# Altium footprint library LDL112PU10R.PcbLib: 1 footprints
Each footprint in its own frame and in the unit in brackets; x right, y up, seen from the top. Pads: shape width x height; smd on the part's side, far side on the other; paste and mask are expansions set on the pad; w line width, h text height; cw(c..) or ccw(c..) is an arc to the next point about the centre after c.
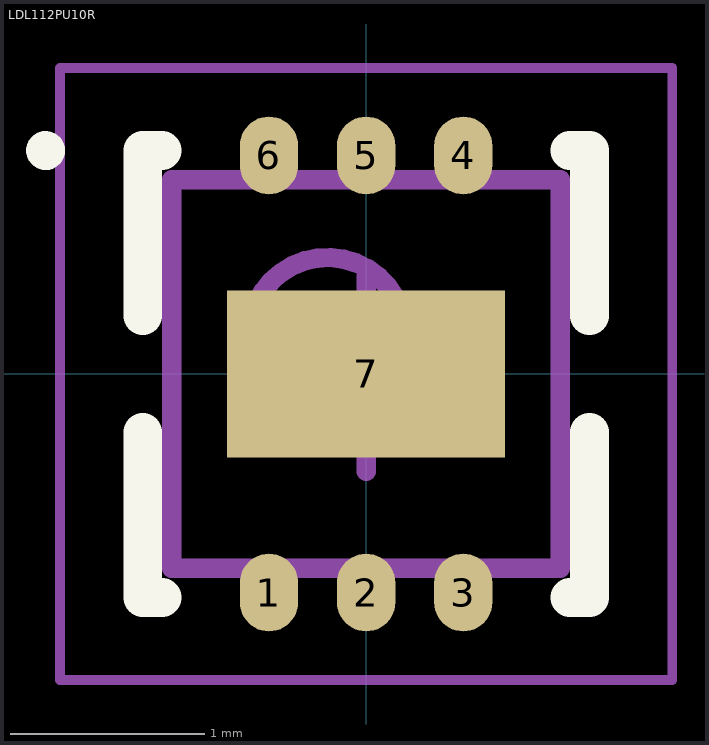
[diagram p0: the footprint, top view; thin cyan lines are the x and y axes]

## LDL112PU10R [mm]
height 0.8
pads (7):
  oval 0.3x0.4 smd: 1(-0.5,-1.125) 2(0,-1.125) 3(0.5,-1.125) 4(0.5,1.125) 5(0,1.125) 6(-0.5,1.125)
  rect 1.43x0.86 smd: 7(0,0)
Top Overlay:
  circle w0.1: c-1.65,1.15 r0.05
  lines w0.2: -1.15,-0.3 -1.15,-1.15 -1.05,-1.15 ; -1.15,0.3 -1.15,1.15 -1.05,1.15 ; 1.05,-1.15 1.15,-1.15 1.15,-0.3 ; 1.05,1.15 1.15,1.15 1.15,0.3
Mechanical 13:
  circle w0.1: c-0.2,0.2 r0.4
  lines w0.1: -1,-1 1,-1 1,1 -1,1 -1,-1
Mechanical 15:
  lines w0.05: -1.575,-1.575 1.575,-1.575 1.575,1.575 -1.575,1.575 -1.575,-1.575
  lines w0.1: -0.5,0 0.5,0 ; 0,-0.5 0,0.5
3D body "LDL112PU10R.step": height 0.8, standoff 0, extent -1,-1.001 1,1.001